# Altium footprint library Amber.PcbLib: 76 footprints (part 4 of 5)
Each footprint in its own frame and in the unit in brackets; x right, y up, seen from the top. Pads: shape width x height; smd on the part's side, far side on the other; paste and mask are expansions set on the pad; w line width, h text height; cw(c..) or ccw(c..) is an arc to the next point about the centre after c.
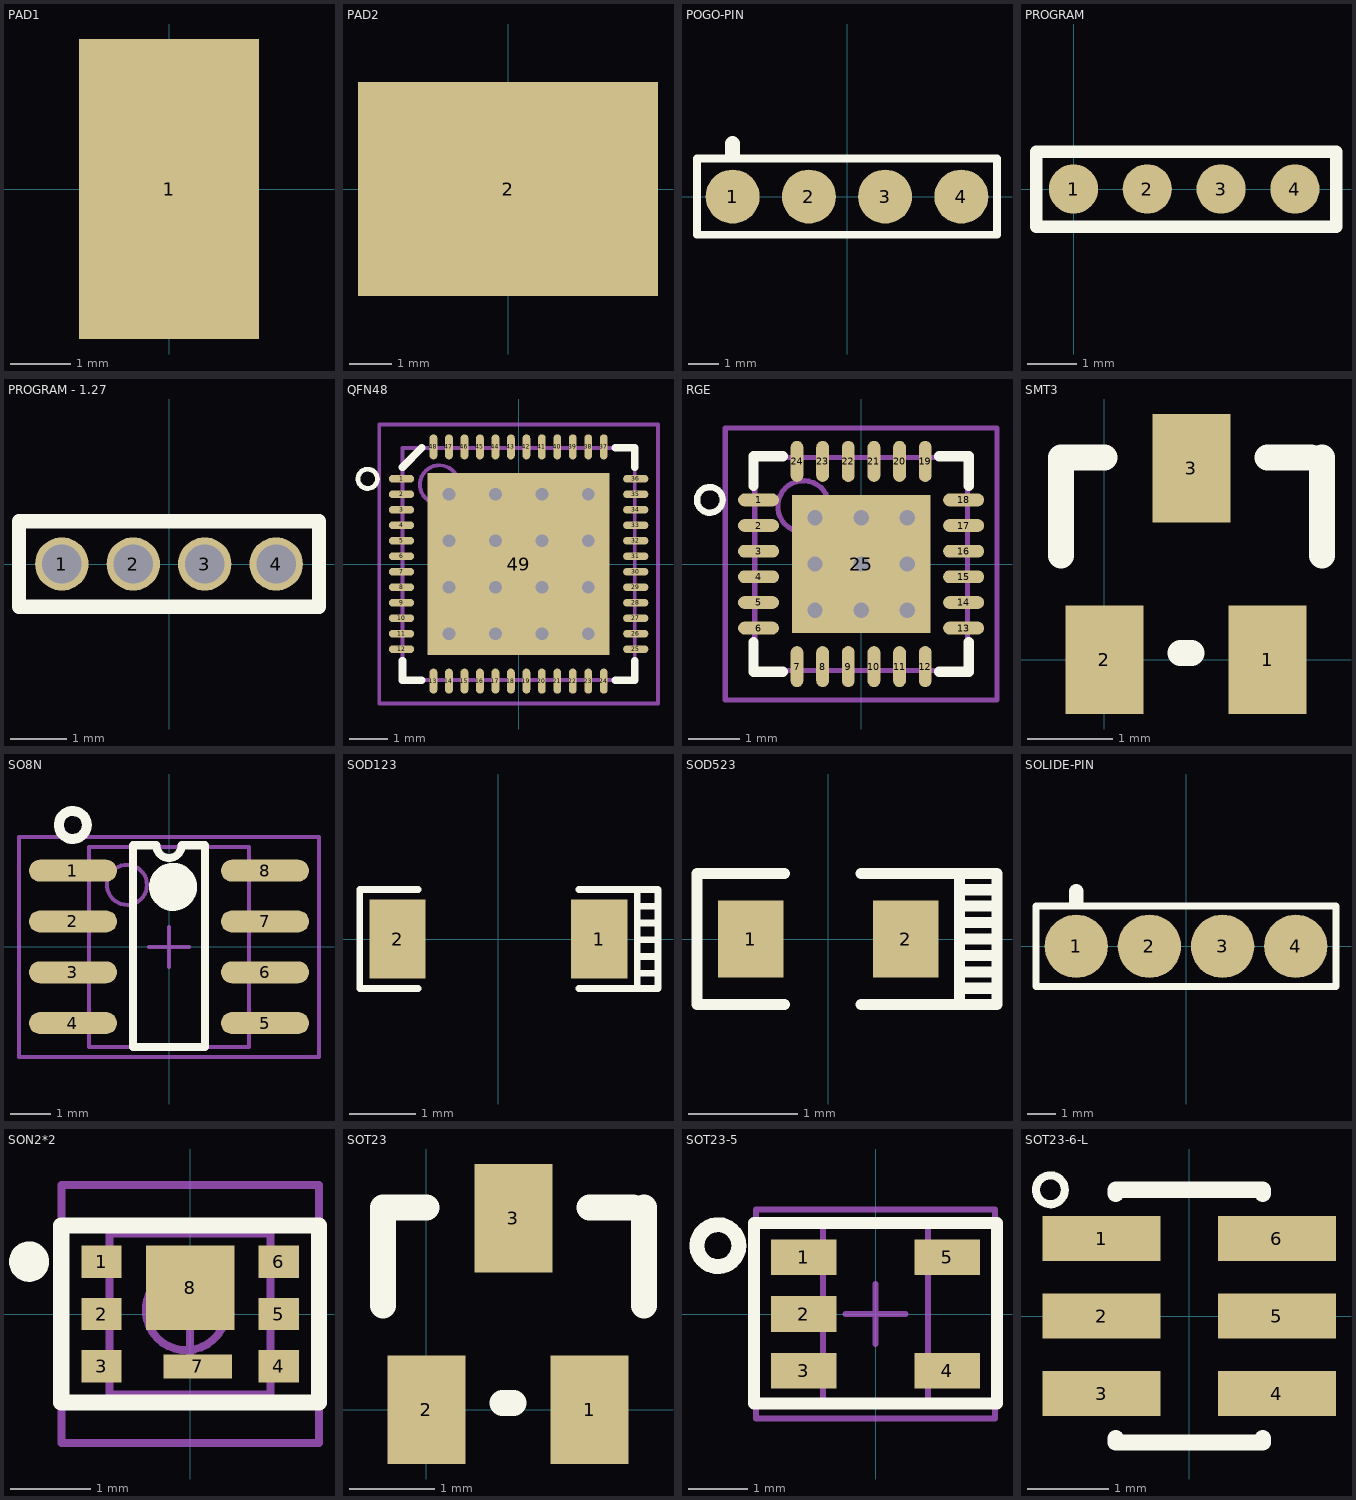
[diagram p3: the footprints below, top view; thin cyan lines are the x and y axes]

## PAD1 [mm]
pads (1):
  rect 3x5 smd: 1(0,0)

## PAD2 [mm]
pads (1):
  rect 7x5 smd: 2(0,0)

## POGO-PIN [mm] "厂家：TopLink，型号：100871-4"
pads (4):
  round 1.8 smd: 1(-3.81,0) 2(-1.27,0) 3(1.27,0) 4(3.81,0)
Top Overlay:
  lines w0.254: -5,-1.27 5,-1.27 5,1.27 -5,1.27 -5,-1.27
  lines w0.5: -3.81,1.397 -3.81,1.778

## PROGRAM [mm]
pads (4):
  round 1 smd: 1(0,0) 2(1.5,0) 3(3,0) 4(4.5,0)
Top Overlay:
  lines w0.254: -0.762,-0.762 5.334,-0.762 5.334,0.762 -0.762,0.762 -0.762,-0.762
3D body: height 0.1, standoff 0, extent -0.602,-0.602 5.102,0.602

## PROGRAM - 1.27 [mm]
pads (4):
  round 0.95 hole 0.7: 1(-1.905,0) 2(-0.635,0) 3(0.635,0) 4(1.905,0)
Top Overlay:
  lines w0.254: -2.667,-0.762 2.667,-0.762 2.667,0.762 -2.667,0.762 -2.667,-0.762
3D body: height 0, standoff 0, extent -2.482,-0.577 2.482,0.577

## QFN48 [mm]
pads (49):
  oval 0.65x0.2 smd: 1(-3.025,2.2) 2(-3.025,1.8) 3(-3.025,1.4) 4(-3.025,1) 5(-3.025,0.6) 6(-3.025,0.2) 7(-3.025,-0.2) 8(-3.025,-0.6) 9(-3.025,-1) 10(-3.025,-1.4) 11(-3.025,-1.8) 12(-3.025,-2.2) 25(3.025,-2.2) 26(3.025,-1.8) 27(3.025,-1.4) 28(3.025,-1) 29(3.025,-0.6) 30(3.025,-0.2) 31(3.025,0.2) 32(3.025,0.6) 33(3.025,1) 34(3.025,1.4) 35(3.025,1.8) 36(3.025,2.2)
  oval 0.2x0.65 smd: 13(-2.2,-3.025) 14(-1.8,-3.025) 15(-1.4,-3.025) 16(-1,-3.025) 17(-0.6,-3.025) 18(-0.2,-3.025) 19(0.2,-3.025) 20(0.6,-3.025) 21(1,-3.025) 22(1.4,-3.025) 23(1.8,-3.025) 24(2.2,-3.025) 37(2.2,3.025) 38(1.8,3.025) 39(1.4,3.025) 40(1,3.025) 41(0.6,3.025) 42(0.2,3.025) 43(-0.2,3.025) 44(-0.6,3.025) 45(-1,3.025) 46(-1.4,3.025) 47(-1.8,3.025) 48(-2.2,3.025)
  rect 4.7x4.7 smd: 49(0,0)
via -1.8,1.8 diameter 0.66 hole 0.33
via -0.6,1.8 diameter 0.66 hole 0.33
via 0.6,1.8 diameter 0.66 hole 0.33
via 1.8,1.8 diameter 0.66 hole 0.33
via -1.8,0.6 diameter 0.66 hole 0.33
via -0.6,0.6 diameter 0.66 hole 0.33
via 0.6,0.6 diameter 0.66 hole 0.33
via 1.8,0.6 diameter 0.66 hole 0.33
via -1.8,-0.6 diameter 0.66 hole 0.33
via -0.6,-0.6 diameter 0.66 hole 0.33
via 0.6,-0.6 diameter 0.66 hole 0.33
via 1.8,-0.6 diameter 0.66 hole 0.33
via -1.8,-1.8 diameter 0.66 hole 0.33
via -0.6,-1.8 diameter 0.66 hole 0.33
via 0.6,-1.8 diameter 0.66 hole 0.33
via 1.8,-1.8 diameter 0.66 hole 0.33
Top Overlay:
  circle w0.125: c-3.9,2.2 r0.25
  lines w0.2: -3,-2.5 -3,-3 -2.5,-3 ; -3,2.5 -2.5,3 ; 2.5,-3 3,-3 3,-2.5 ; 2.5,3 3,3 3,2.5
Mechanical 13:
  circle w0.1: c-2.05,2.05 r0.5
  lines w0.1: -3,-3 -3,3 3,3 3,-3 -3,-3
Mechanical 15:
  lines w0.1: -0.5,0 0.5,0 ; 0,-0.5 0,0.5 ; -3.6,-3.6 -3.6,3.6 3.6,3.6 3.6,-3.6 -3.6,-3.6
3D body: height 0.9, standoff 0, extent -3,-3 3,3

## RGE [mm]
height 1
pads (25):
  oval 0.8x0.25 smd: 1(-2,1.25) 2(-2,0.75) 3(-2,0.25) 4(-2,-0.25) 5(-2,-0.75) 6(-2,-1.25) 13(2,-1.25) 14(2,-0.75) 15(2,-0.25) 16(2,0.25) 17(2,0.75) 18(2,1.25)
  oval 0.25x0.8 smd: 7(-1.25,-2) 8(-0.75,-2) 9(-0.25,-2) 10(0.25,-2) 11(0.75,-2) 12(1.25,-2) 19(1.25,2) 20(0.75,2) 21(0.25,2) 22(-0.25,2) 23(-0.75,2) 24(-1.25,2)
  rect 2.7x2.7 smd: 25(0,0)
via -0.9,0.9 diameter 0.6 hole 0.3
via -0.9,0 diameter 0.6 hole 0.3
via -0.9,-0.9 diameter 0.6 hole 0.3
via 0.9,-0.9 diameter 0.6 hole 0.3
via 0.9,0 diameter 0.6 hole 0.3
via 0.9,0.9 diameter 0.6 hole 0.3
via 0,0.9 diameter 0.6 hole 0.3
via 0,-0.9 diameter 0.6 hole 0.3
via 0,0 diameter 0.6 hole 0.3
Top Overlay:
  circle w0.125: c-2.95,1.25 r0.25
  lines w0.2: -2.1,-1.525 -2.1,-2.1 -1.525,-2.1 ; -2.1,1.525 -2.1,2.1 -1.525,2.1 ; 1.525,-2.1 2.1,-2.1 2.1,-1.525 ; 1.525,2.1 2.1,2.1 2.1,1.525
Mechanical 13:
  circle w0.1: c-1.125,1.125 r0.5
  lines w0.1: -2.075,-2.075 2.075,-2.075 2.075,2.075 -2.075,2.075 -2.075,-2.075
Mechanical 15:
  lines w0.1: -0.5,0 0.5,0 ; 0,-0.5 0,0.5 ; -2.65,-2.65 2.65,-2.65 2.65,2.65 -2.65,2.65 -2.65,-2.65
3D body: height 1, standoff 0.05, extent -2.075,-2.075 2.075,2.075

## SMT3 [mil]
pads (3):
  rect 36x50 smd: 1(75,0) 2(0,0) 3(40,88)
Top Overlay:
  lines w12: -20,48 -20,93 0,93 ; 35,3 40,3 ; 75,93 95,93 ; 100,48 100,93
3D body: height 37.4, standoff 0, extent -22,-29.01 97,116.99

## SO8N [mm]
height 1.75
pads (8):
  oval 2.2x0.55 smd: 1(-2.4,1.905) 2(-2.4,0.635) 3(-2.4,-0.635) 4(-2.4,-1.905) 5(2.4,-1.905) 6(2.4,-0.635) 7(2.4,0.635) 8(2.4,1.905)
Top Overlay:
  circle w0.25: c-2.405,3.048 r0.35
  circle w0.6: c0.1,1.5 r0.3
  lines w0.2: -0.9,2.5 -0.9,-2.5 0.9,-2.5 0.9,2.5
  lines w0.203: -0.9,2.54 -0.317,2.54 ccw(c0,2.54) 0.318,2.54 0.9,2.54
Mechanical 13:
  circle w0.1: c-1.05,1.55 r0.5
  lines w0.1: -2,-2.5 -2,2.5 2,2.5 2,-2.5 -2,-2.5
Mechanical 15:
  lines w0.1: -0.5,0 0.5,0 ; 0,-0.5 0,0.5 ; -3.75,-2.75 -3.75,2.75 3.75,2.75 3.75,-2.75 -3.75,-2.75
3D body: height 1.75, standoff 0.17, extent -2,-2.5 2,2.5

## SOD123 [mm] "厂家：ROHM，型号：RB161M-20"
pads (2):
  rect 0.85x1.2 smd: 1(1.525,0) 2(-1.525,0)
Top Overlay:
  lines w0.102: -1.215,-0.75 -2.1,-0.75 -2.1,0.75 -1.215,0.75 ; 1.215,-0.75 2.1,-0.75 ; 1.215,0.75 2.1,0.75 ; 2.1,-0.52 2.414,-0.52 ; 2.1,-0.266 2.414,-0.266 ; 2.1,-0.012 2.414,-0.012 ; 2.1,0.242 2.414,0.242 ; 2.1,0.496 2.414,0.496 ; 2.1,-0.75 2.414,-0.75 2.414,0.75 2.1,0.75 ; 2.1,-0.75 2.1,0.75

## SOD523 [mm]
pads (2):
  rect 0.6x0.7 smd: 1(-0.71,0) 2(0.71,0)
Top Overlay:
  lines w0.102: -0.4,-0.6 -1.2,-0.6 -1.2,0.6 -0.4,0.6 ; 0.3,-0.6 1.543,-0.6 1.543,0.6 0.3,0.6 ; 1.2,-0.6 1.2,0.6 ; 1.2,-0.45 1.514,-0.45 ; 1.21,-0.3 1.524,-0.3 ; 1.21,-0.15 1.524,-0.15 ; 1.21,0 1.524,0 ; 1.21,0.3 1.524,0.3 ; 1.229,0.15 1.543,0.15 ; 1.229,0.45 1.543,0.45
3D body: height 0.7, standoff 0, extent -1.377,-0.552 1.377,0.552

## SOLIDE-PIN [mm] "厂家：联立通，型号：LLT-144006"
pads (4):
  round 2.2 smd: 1(-3.81,0) 2(-1.27,0) 3(1.27,0) 4(3.81,0)
Top Overlay:
  lines w0.254: -5.207,-1.397 -5.207,1.397 5.207,1.397 5.207,-1.397 -5.207,-1.397
  lines w0.5: -3.81,1.524 -3.81,1.905

## SON2*2 [mm]
height 0.8
pads (8):
  rect 0.5x0.4 smd: 1(-1.1,0.65) 2(-1.1,0) 3(-1.1,-0.65) 4(1.1,-0.65) 5(1.1,0) 6(1.1,0.65)
  rect 0.85x0.3 smd: 7(0.095,-0.65)
  rect 1.1x1.05 smd: 8(0,0.325)
Top Overlay:
  circle w0.25: c-2,0.65 r0.125
  lines w0.2: -1.6,-1.1 -1.6,1.1 1.6,1.1 1.6,-1.1 -1.6,-1.1
Mechanical 13:
  circle w0.1: c-0.05,0.05 r0.5
  lines w0.1: -1,-1 1,-1 1,1 -1,1 -1,-1
Mechanical 15:
  lines w0.1: -0.5,0 0.5,0 ; 0,-0.5 0,0.5 ; -1.6,-1.6 1.6,-1.6 1.6,1.6 -1.6,1.6 -1.6,-1.6
3D body: height 0.8, standoff 0.05, extent -1,-1 1,1

## SOT23 [mil]
pads (3):
  rect 36x50 smd: 1(75,0) 2(0,0) 3(40,88)
Top Overlay:
  lines w12: -20,48 -20,93 0,93 ; 35,3 40,3 ; 75,93 95,93 ; 100,48 100,93
3D body: height 37.4, standoff 0, extent -22,-29.01 97,116.99

## SOT23-5 [mm] "厂家：ST，型号：STM6321硬件复位看门狗芯片"
pads (5):
  rect 1.1x0.6 smd: 1(-1.2,0.95) 2(-1.2,0) 3(-1.2,-0.95) 4(1.2,-0.95) 5(1.2,0.95)
Top Overlay:
  circle w0.25: c-2.636,1.143 r0.35
  lines w0.2: -2.032,-1.5 -2.032,1.524 2.032,1.524 2.032,-1.5 -2.032,-1.5
Mechanical 13:
  lines w0.1: -0.875,-1.5 0.875,-1.5 0.875,1.5 -0.875,1.5 -0.875,-1.5
Mechanical 15:
  lines w0.1: -0.5,0 0.5,0 ; 0,-0.5 0,0.5 ; -2,-1.75 2,-1.75 2,1.75 -2,1.75 -2,-1.75
3D body: height 1.45, standoff 0.15, extent -0.875,-1.5 0.875,1.5

## SOT23-6-L [mm]
pads (6):
  rect 1.45x0.55 smd: 1(-1.075,0.95) 2(-1.075,0) 3(-1.075,-0.95) 4(1.075,-0.95) 5(1.075,0) 6(1.075,0.95)
Top Overlay:
  circle w0.1: c-1.702,1.549 r0.177
  lines w0.2: -0.9,-1.5 -0.9,-1.55 0.9,-1.55 0.9,-1.5 ; -0.9,1.5 -0.9,1.55 0.9,1.55 0.9,1.5
3D body: height 1.08, standoff -0.01, extent -1.232,-1.397 1.194,1.397